# EAGLE library part PTD902 (library all-passives)
PTD902 Bourns Inc. 9 mm Multi-Ganged Potentiometer
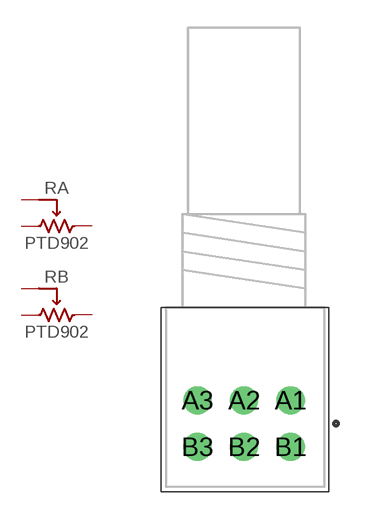
[diagram p0: symbol with the pads of PTD902; footprint PTD902]

Designator prefix R; gates A=RPOT-US B=RPOT-US

## PTD902  [PTD902]
A1  A:1  pas
A2  A:S  pas
A3  A:2  pas
B1  B:1  pas
B2  B:S  pas
B3  B:2  pas

## Footprint PTD902 (pad centres in mm)
drill 1: A1 2.5,1.25; A2 0,1.25; A3 -2.5,1.25; B1 2.5,-1.25; B2 0,-1.25; B3 -2.5,-1.25